# Altium footprint library MLACHL_L.PCBLIB: 254 footprints (part 4 of 16)
Each footprint in its own frame and in the unit in brackets; x right, y up, seen from the top. Pads: shape width x height; smd on the part's side, far side on the other; paste and mask are expansions set on the pad; w line width, h text height; cw(c..) or ccw(c..) is an arc to the next point about the centre after c.
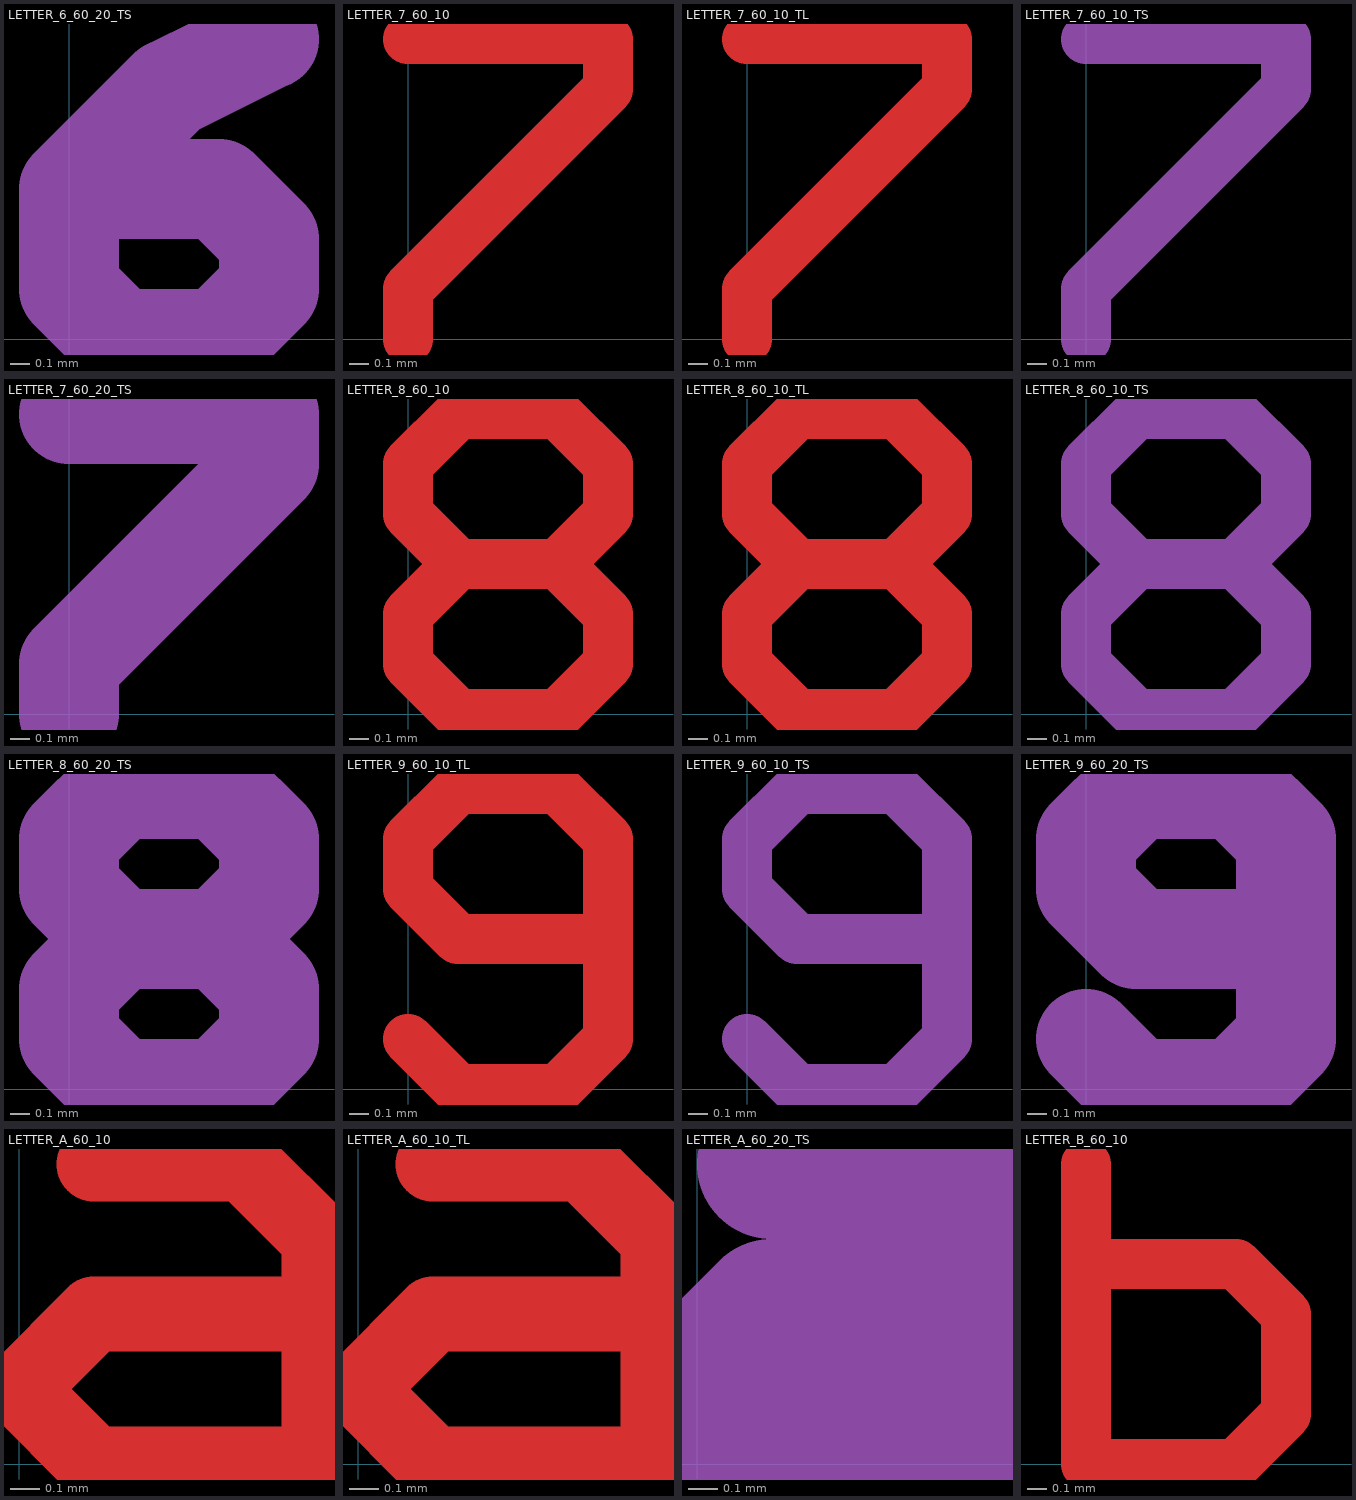
[diagram p3: the footprints below, top view; thin cyan lines are the x and y axes]

## LETTER_6_60_20_TS [mm]
TopSolder:
  lines w0.508: 1.016,1.524 0.508,1.27 0,0.762 ; 0,0.762 0,0.254 0.254,0 0.762,0 1.016,0.254 1.016,0.508 0.762,0.762 0,0.762

## LETTER_7_60_10 [mm]
TopLayer:
  lines w0.254: 0,0 0,0.254 1.016,1.27 1.016,1.524 0,1.524
TopSolder:
  lines w0.508: 0,0 0,0.254 1.016,1.27 1.016,1.524 0,1.524

## LETTER_7_60_10_TL [mm]
TopLayer:
  lines w0.254: 0,0 0,0.254 1.016,1.27 1.016,1.524 0,1.524

## LETTER_7_60_10_TS [mm]
TopSolder:
  lines w0.254: 0,0 0,0.254 1.016,1.27 1.016,1.524 0,1.524

## LETTER_7_60_20_TS [mm]
TopSolder:
  lines w0.508: 0,0 0,0.254 1.016,1.27 1.016,1.524 0,1.524

## LETTER_8_60_10 [mm]
TopLayer:
  lines w0.254: 0.254,0.762 0.762,0.762 ; 0.254,0.762 0,1.016 0,1.27 0.254,1.524 0.762,1.524 1.016,1.27 1.016,1.016 0.762,0.762 ; 0.254,0.762 0,0.508 0,0.254 0.254,0 0.762,0 1.016,0.254 1.016,0.508 0.762,0.762
TopSolder:
  lines w0.508: 0.254,0.762 0,0.508 0,0.254 0.254,0 0.762,0 1.016,0.254 1.016,0.508 0.762,0.762 ; 0.254,0.762 0,1.016 0,1.27 0.254,1.524 0.762,1.524 1.016,1.27 1.016,1.016 0.762,0.762 ; 0.254,0.762 0.762,0.762

## LETTER_8_60_10_TL [mm]
TopLayer:
  lines w0.254: 0.254,0.762 0,0.508 0,0.254 0.254,0 0.762,0 1.016,0.254 1.016,0.508 0.762,0.762 ; 0.254,0.762 0,1.016 0,1.27 0.254,1.524 0.762,1.524 1.016,1.27 1.016,1.016 0.762,0.762 ; 0.254,0.762 0.762,0.762

## LETTER_8_60_10_TS [mm]
TopSolder:
  lines w0.254: 0.254,0.762 0,0.508 0,0.254 0.254,0 0.762,0 1.016,0.254 1.016,0.508 0.762,0.762 ; 0.254,0.762 0,1.016 0,1.27 0.254,1.524 0.762,1.524 1.016,1.27 1.016,1.016 0.762,0.762 ; 0.254,0.762 0.762,0.762

## LETTER_8_60_20_TS [mm]
TopSolder:
  lines w0.508: 0.254,0.762 0.762,0.762 ; 0.254,0.762 0,1.016 0,1.27 0.254,1.524 0.762,1.524 1.016,1.27 1.016,1.016 0.762,0.762 ; 0.254,0.762 0,0.508 0,0.254 0.254,0 0.762,0 1.016,0.254 1.016,0.508 0.762,0.762

## LETTER_9_60_10_TL [mm]
TopLayer:
  lines w0.254: 0,0.254 0.254,0 0.762,0 1.016,0.254 1.016,1.27 0.762,1.524 0.254,1.524 0,1.27 0,1.016 0.254,0.762 1.016,0.762

## LETTER_9_60_10_TS [mm]
TopSolder:
  lines w0.254: 0,0.254 0.254,0 0.762,0 1.016,0.254 1.016,1.27 0.762,1.524 0.254,1.524 0,1.27 0,1.016 0.254,0.762 1.016,0.762

## LETTER_9_60_20_TS [mm]
TopSolder:
  lines w0.508: 0,0.254 0.254,0 0.762,0 1.016,0.254 1.016,1.27 0.762,1.524 0.254,1.524 0,1.27 0,1.016 0.254,0.762 1.016,0.762

## LETTER_A_60_10 [mm]
TopLayer:
  lines w0.254: 0.254,1.016 0.762,1.016 1.016,0.762 1.016,0 0.254,0 0,0.254 0.254,0.508 1.016,0.508
TopSolder:
  lines w0.508: 0.254,1.016 0.762,1.016 1.016,0.762 1.016,0 0.254,0 0,0.254 0.254,0.508 1.016,0.508
3D body: height 0.3, standoff 0, extent -0.127,-0.127 1.143,1.143

## LETTER_A_60_10_TL [mm]
TopLayer:
  lines w0.254: 0.254,1.016 0.762,1.016 1.016,0.762 1.016,0 0.254,0 0,0.254 0.254,0.508 1.016,0.508
3D body: height 0.3, standoff 0, extent -0.127,-0.127 1.143,1.143

## LETTER_A_60_20_TS [mm]
TopSolder:
  lines w0.508: 0.254,1.016 0.762,1.016 1.016,0.762 1.016,0 0.254,0 0,0.254 0.254,0.508 1.016,0.508

## LETTER_B_60_10 [mm]
TopLayer:
  lines w0.254: 0,1.016 0.762,1.016 1.016,0.762 1.016,0.254 0.762,0 0,0 0,1.524
TopSolder:
  lines w0.508: 0,1.016 0.762,1.016 1.016,0.762 1.016,0.254 0.762,0 0,0 0,1.524
3D body: height 0.3, standoff 0, extent -0.127,-0.127 1.143,1.65